# Altium footprint library blackfin_pcblib.PcbLib: 59 footprints (part 2 of 4)
Each footprint in its own frame and in the unit in brackets; x right, y up, seen from the top. Pads: shape width x height; smd on the part's side, far side on the other; paste and mask are expansions set on the pad; w line width, h text height; cw(c..) or ccw(c..) is an arc to the next point about the centre after c.
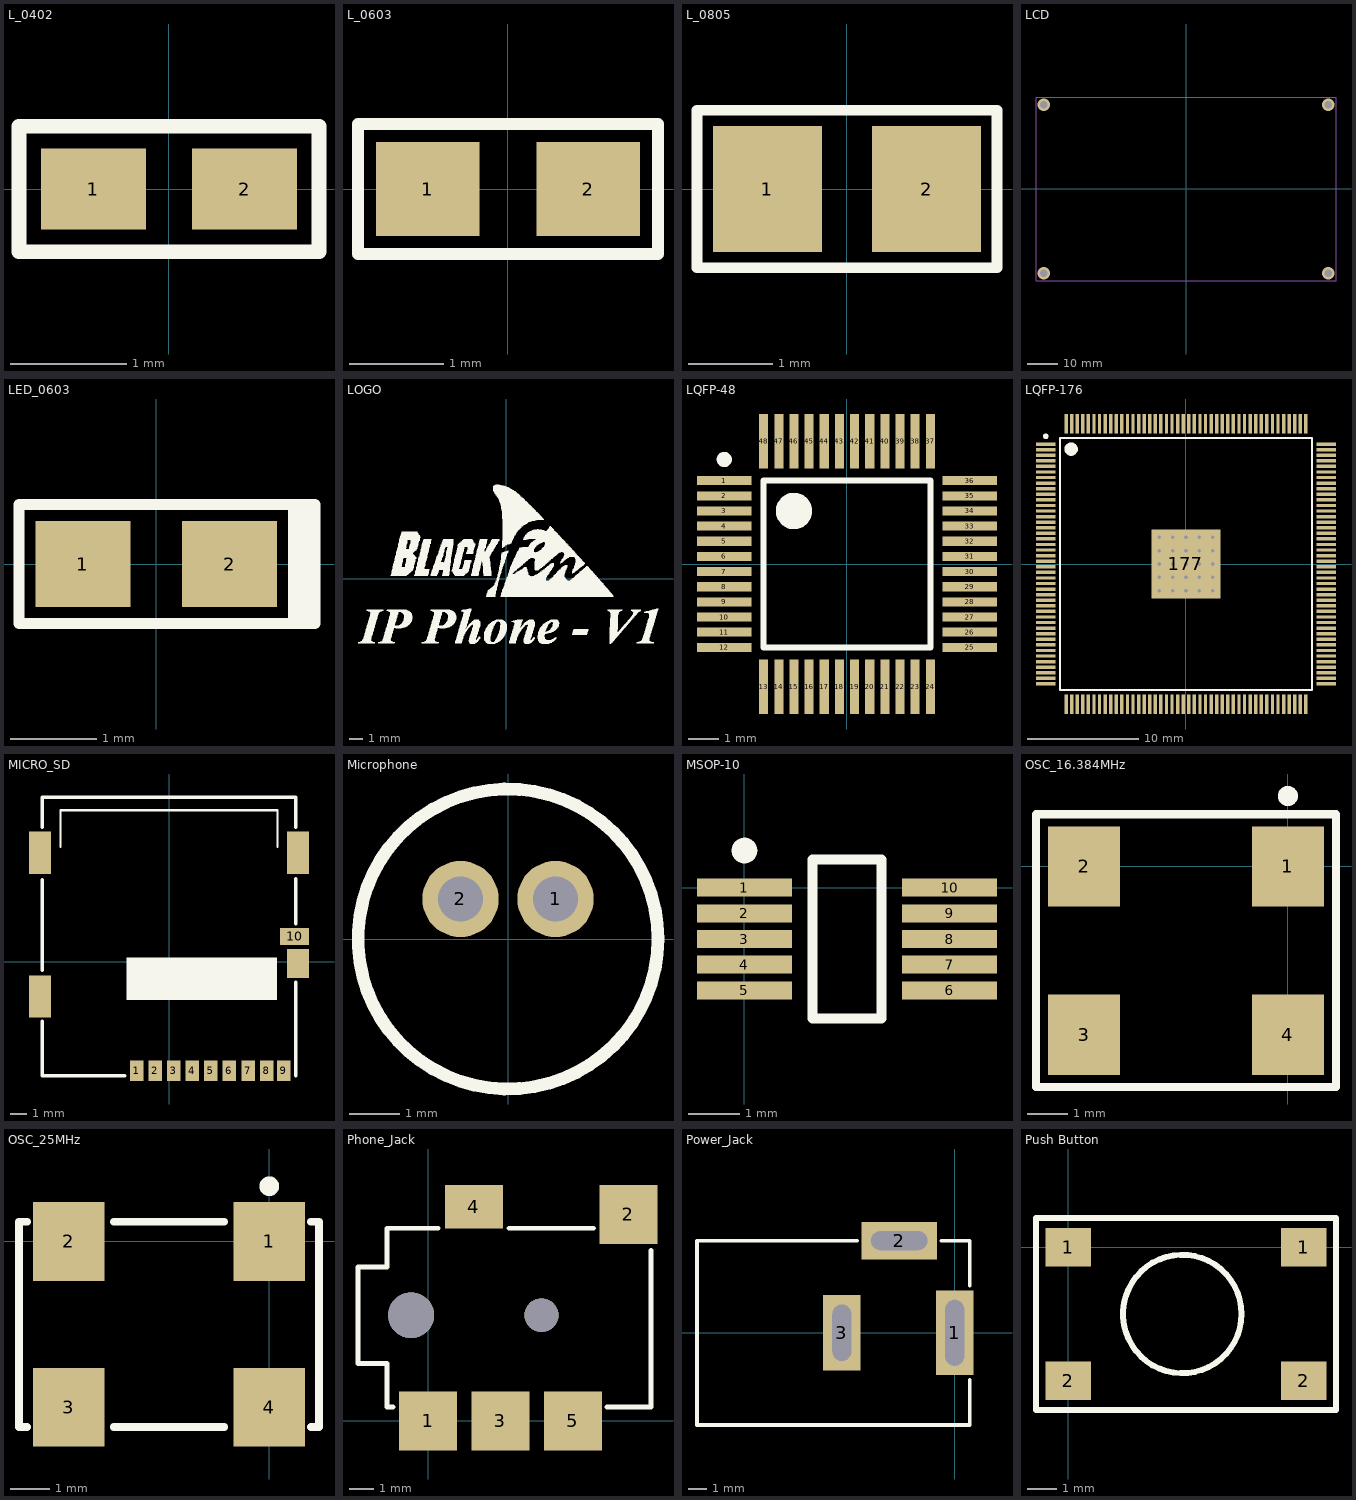
[diagram p1: the footprints below, top view; thin cyan lines are the x and y axes]

## L_0402 [mm]
pads (2):
  rect 0.9x0.7 smd: 1(-0.65,0) 2(0.65,0)
Top Overlay:
  lines w0.127: -1.29,-0.54 1.291,-0.54 1.291,0.54 -1.29,0.54 -1.29,-0.54

## L_0603 [mm]
pads (2):
  rect 1.1x1 smd: 1(-0.85,0) 2(0.85,0)
Top Overlay:
  lines w0.127: -1.59,-0.69 1.59,-0.69 1.59,0.69 -1.59,0.69 -1.59,-0.69

## L_0805 [mm]
pads (2):
  rect 1.3x1.5 smd: 1(-0.95,0) 2(0.95,0)
Top Overlay:
  lines w0.127: -1.79,-0.94 -1.79,0.94 1.79,0.94 1.79,-0.94 -1.79,-0.94

## LCD [mm] "LCD"
height 35
via -46.5,-27.5 diameter 4 hole 2.5
via 46.5,-27.5 diameter 4 hole 2.5
via 46.5,27.5 diameter 4 hole 2.5
via -46.5,27.5 diameter 4 hole 2.5
Mechanical 1:
  lines w0.2: -49,-30 49,-30 49,30 -49,30 -49,-30
3D body: height 35, standoff 25, extent -49.1,-30.1 49.1,30.1

## LED_0603 [mm]
pads (2):
  rect 1.1x1 smd: 1(-0.85,0) 2(0.85,0)
Top Overlay:
  region: 1.886,0.711 1.528,0.711 1.528,-0.711 1.886,-0.711
  lines w0.127: -1.59,-0.69 1.842,-0.69 1.842,0.69 -1.59,0.69 -1.59,-0.69

## LOGO [mm]
Top Overlay:
  drawing of 2886 lines, arcs and shapes, not listed

## LQFP-48 [mm] "DP83848C, FT2232D"
height 1.6
pads (48):
  rect 1.8x0.3 smd: 1(-4.05,2.75) 2(-4.05,2.25) 3(-4.05,1.75) 4(-4.05,1.25) 5(-4.05,0.75) 6(-4.05,0.25) 7(-4.05,-0.25) 8(-4.05,-0.75) 9(-4.05,-1.25) 10(-4.05,-1.75) 11(-4.05,-2.25) 12(-4.05,-2.75) 25(4.05,-2.75) 26(4.05,-2.25) 27(4.05,-1.75) 28(4.05,-1.25) 29(4.05,-0.75) 30(4.05,-0.25) 31(4.05,0.25) 32(4.05,0.75) 33(4.05,1.25) 34(4.05,1.75) 35(4.05,2.25) 36(4.05,2.75)
  rect 0.3x1.8 smd: 13(-2.75,-4.05) 14(-2.25,-4.05) 15(-1.75,-4.05) 16(-1.25,-4.05) 17(-0.75,-4.05) 18(-0.25,-4.05) 19(0.25,-4.05) 20(0.75,-4.05) 21(1.25,-4.05) 22(1.75,-4.05) 23(2.25,-4.05) 24(2.75,-4.05) 37(2.75,4.05) 38(2.25,4.05) 39(1.75,4.05) 40(1.25,4.05) 41(0.75,4.05) 42(0.25,4.05) 43(-0.25,4.05) 44(-0.75,4.05) 45(-1.25,4.05) 46(-1.75,4.05) 47(-2.25,4.05) 48(-2.75,4.05)
Top Overlay:
  circle w0.25: c-4.05,3.45 r0.125
  circle w0.6: c-1.75,1.75 r0.3
  lines w0.2: -2.75,-2.75 -2.75,2.75 2.75,2.75 2.75,-2.75 -2.75,-2.75

## LQFP-176 [mm] "ADSP-BF518"
height 1.6
pads (177):
  rect 1.75x0.3 smd: 1(-12.575,10.75) 2(-12.575,10.25) 3(-12.575,9.75) 4(-12.575,9.25) 5(-12.575,8.75) 6(-12.575,8.25) 7(-12.575,7.75) 8(-12.575,7.25) 9(-12.575,6.75) 10(-12.575,6.25) 11(-12.575,5.75) 12(-12.575,5.25) 13(-12.575,4.75) 14(-12.575,4.25) 15(-12.575,3.75) 16(-12.575,3.25) 17(-12.575,2.75) 18(-12.575,2.25) 19(-12.575,1.75) 20(-12.575,1.25) 21(-12.575,0.75) 22(-12.575,0.25) 23(-12.575,-0.25) 24(-12.575,-0.75) 25(-12.575,-1.25) 26(-12.575,-1.75) 27(-12.575,-2.25) 28(-12.575,-2.75) 29(-12.575,-3.25) 30(-12.575,-3.75) 31(-12.575,-4.25) 32(-12.575,-4.75) 33(-12.575,-5.25) 34(-12.575,-5.75) 35(-12.575,-6.25) 36(-12.575,-6.75) 37(-12.575,-7.25) 38(-12.575,-7.75) 39(-12.575,-8.25) 40(-12.575,-8.75) 41(-12.575,-9.25) 42(-12.575,-9.75) 43(-12.575,-10.25) 44(-12.575,-10.75) 89(12.575,-10.75) 90(12.575,-10.25) 91(12.575,-9.75) 92(12.575,-9.25) 93(12.575,-8.75) 94(12.575,-8.25) 95(12.575,-7.75) 96(12.575,-7.25) 97(12.575,-6.75) 98(12.575,-6.25) 99(12.575,-5.75) 100(12.575,-5.25) 101(12.575,-4.75) 102(12.575,-4.25) 103(12.575,-3.75) 104(12.575,-3.25) 105(12.575,-2.75) 106(12.575,-2.25) 107(12.575,-1.75) 108(12.575,-1.25) 109(12.575,-0.75) 110(12.575,-0.25) 111(12.575,0.25) 112(12.575,0.75) 113(12.575,1.25) 114(12.575,1.75) 115(12.575,2.25) 116(12.575,2.75) 117(12.575,3.25) 118(12.575,3.75) 119(12.575,4.25) 120(12.575,4.75) 121(12.575,5.25) 122(12.575,5.75) 123(12.575,6.25) 124(12.575,6.75) 125(12.575,7.25) 126(12.575,7.75) 127(12.575,8.25) 128(12.575,8.75) 129(12.575,9.25) 130(12.575,9.75) 131(12.575,10.25) 132(12.575,10.75)
  rect 0.3x1.75 smd: 45(-10.75,-12.575) 46(-10.25,-12.575) 47(-9.75,-12.575) 48(-9.25,-12.575) 49(-8.75,-12.575) 50(-8.25,-12.575) 51(-7.75,-12.575) 52(-7.25,-12.575) 53(-6.75,-12.575) 54(-6.25,-12.575) 55(-5.75,-12.575) 56(-5.25,-12.575) 57(-4.75,-12.575) 58(-4.25,-12.575) 59(-3.75,-12.575) 60(-3.25,-12.575) 61(-2.75,-12.575) 62(-2.25,-12.575) 63(-1.75,-12.575) 64(-1.25,-12.575) 65(-0.75,-12.575) 66(-0.25,-12.575) 67(0.25,-12.575) 68(0.75,-12.575) 69(1.25,-12.575) 70(1.75,-12.575) 71(2.25,-12.575) 72(2.75,-12.575) 73(3.25,-12.575) 74(3.75,-12.575) 75(4.25,-12.575) 76(4.75,-12.575) 77(5.25,-12.575) 78(5.75,-12.575) 79(6.25,-12.575) 80(6.75,-12.575) 81(7.25,-12.575) 82(7.75,-12.575) 83(8.25,-12.575) 84(8.75,-12.575) 85(9.25,-12.575) 86(9.75,-12.575) 87(10.25,-12.575) 88(10.75,-12.575) 133(10.75,12.575) 134(10.25,12.575) 135(9.75,12.575) 136(9.25,12.575) 137(8.75,12.575) 138(8.25,12.575) 139(7.75,12.575) 140(7.25,12.575) 141(6.75,12.575) 142(6.25,12.575) 143(5.75,12.575) 144(5.25,12.575) 145(4.75,12.575) 146(4.25,12.575) 147(3.75,12.575) 148(3.25,12.575) 149(2.75,12.575) 150(2.25,12.575) 151(1.75,12.575) 152(1.25,12.575) 153(0.75,12.575) 154(0.25,12.575) 155(-0.25,12.575) 156(-0.75,12.575) 157(-1.25,12.575) 158(-1.75,12.575) 159(-2.25,12.575) 160(-2.75,12.575) 161(-3.25,12.575) 162(-3.75,12.575) 163(-4.25,12.575) 164(-4.75,12.575) 165(-5.25,12.575) 166(-5.75,12.575) 167(-6.25,12.575) 168(-6.75,12.575) 169(-7.25,12.575) 170(-7.75,12.575) 171(-8.25,12.575) 172(-8.75,12.575) 173(-9.25,12.575) 174(-9.75,12.575) 175(-10.25,12.575) 176(-10.75,12.575)
  rect 6.2x6.2 smd: 177(0,0)
via -2.4,2.4 diameter 0.66 hole 0.33
via -1.2,2.4 diameter 0.66 hole 0.33
via 0,2.4 diameter 0.66 hole 0.33
via 1.2,2.4 diameter 0.66 hole 0.33
via 2.4,2.4 diameter 0.66 hole 0.33
via -2.4,1.2 diameter 0.66 hole 0.33
via -1.2,1.2 diameter 0.66 hole 0.33
via 0,1.2 diameter 0.66 hole 0.33
via 1.2,1.2 diameter 0.66 hole 0.33
via 2.4,1.2 diameter 0.66 hole 0.33
via -2.4,0 diameter 0.66 hole 0.33
via -1.2,0 diameter 0.66 hole 0.33
via 0,0 diameter 0.66 hole 0.33
via 1.2,0 diameter 0.66 hole 0.33
via 2.4,0 diameter 0.66 hole 0.33
via -2.4,-1.2 diameter 0.66 hole 0.33
via -1.2,-1.2 diameter 0.66 hole 0.33
via 0,-1.2 diameter 0.66 hole 0.33
via 1.2,-1.2 diameter 0.66 hole 0.33
via 2.4,-1.2 diameter 0.66 hole 0.33
via -2.4,-2.4 diameter 0.66 hole 0.33
via -1.2,-2.4 diameter 0.66 hole 0.33
via 0,-2.4 diameter 0.66 hole 0.33
via 1.2,-2.4 diameter 0.66 hole 0.33
via 2.4,-2.4 diameter 0.66 hole 0.33
Top Overlay:
  circle w0.25: c-12.575,11.45 r0.125
  circle w0.6: c-10.3,10.3 r0.3
  lines w0.2: -11.3,-11.3 -11.3,11.3 11.3,11.3 11.3,-11.3 -11.3,-11.3
Mechanical 15:
  lines w0.1: -0.5,0 0.5,0 ; 0,-0.5 0,0.5

## MICRO_SD [mm]
pads (14):
  rect 0.8x1.2 smd: 1(-1.92,-6.45) 2(-0.82,-6.45) 3(0.28,-6.45) 4(1.38,-6.45) 5(2.48,-6.45) 6(3.58,-6.45) 7(4.68,-6.45) 8(5.78,-6.45) 9(6.78,-6.45)
  rect 1.7x1 smd: 10(7.43,1.5)
  rect 1.3x2.5 smd: ""(-7.63,-2.05) ""(-7.63,6.45) ""(7.63,6.45)
  rect 1.3x1.7 smd: ""(7.63,-0.1)
Top Overlay:
  rectangle: -2.515,-2.261 6.401,0.254
  lines w0.127: -6.415,6.796 -6.415,8.971 6.415,8.971 6.415,6.796
  lines w0.2: -7.5,-3.509 -7.5,-6.75 -2.609,-6.75 ; -7.5,-0.512 -7.5,4.873 ; -7.5,7.972 -7.5,9.75 7.5,9.75 7.5,7.972 ; 7.5,-6.75 7.5,-1.197 ; 7.5,2.257 7.5,4.924

## Microphone [mm]
pads (2):
  round 1.524 hole 0.9: 1(0.95,0.8) 2(-0.95,0.8)
Top Overlay:
  circle w0.254: c0,0 r3
3D body: height 2.7, standoff 0, extent -3.009,-3.009 3.009,3.009

## MSOP-10 [mm] "SSM2167"
height 1.1
pads (10):
  rect 1.85x0.35 smd: 1(0,0) 2(0,-0.5) 3(0,-1) 4(0,-1.5) 5(0,-2) 6(4,-2) 7(4,-1.5) 8(4,-1) 9(4,-0.5) 10(4,0)
Top Overlay:
  circle w0.25: c0,0.725 r0.125
  lines w0.2: 1.325,-2.55 1.325,0.55 2.675,0.55 2.675,-2.55 1.325,-2.55

## OSC_16.384MHz [mm]
height 1.6
pads (4):
  rect 1.8x2 smd: 1(0,0) 2(-5.08,0) 3(-5.08,-4.2) 4(0,-4.2)
Top Overlay:
  circle w0.25: c0,1.754 r0.125
  lines w0.2: -6.28,-5.5 -6.28,1.3 1.2,1.3 1.2,-5.5 -6.28,-5.5

## OSC_25MHz [mm]
height 1
pads (4):
  rect 1.8x2 smd: 1(0,0) 2(-5.08,0) 3(-5.08,-4.2) 4(0,-4.2)
Top Overlay:
  circle w0.25: c0,1.398 r0.125
  lines w0.2: -6.14,-4.7 -6.34,-4.7 -6.34,0.5 -6.14,0.5 ; -3.94,-4.7 -1.14,-4.7 ; -3.94,0.5 -1.14,0.5 ; 1.06,-4.7 1.26,-4.7 1.26,0.5 1.06,0.5

## Phone_Jack [mm] "Phone_Jack"
pads (7):
  rect 2.4x2.45 smd: 1(0,0) 2(8.3,8.55) 3(3,0) 5(6,0)
  rect 2.4x1.8 smd: 4(1.9,8.875)
  round 1.9 hole 1.9: ""(-0.7,4.375)
  round 1.4 hole 1.4: ""(4.7,4.375)
Top Overlay:
  lines w0.2: -1.448,0.575 -1.7,0.575 -1.7,2.375 -2.9,2.375 -2.9,6.375 -1.7,6.375 -1.7,7.975 0.427,7.975 ; 3.348,7.975 6.853,7.975 ; 7.417,0.575 9.241,0.575 9.241,7.067

## Power_Jack [mm] "Power_Jack"
height 11
pads (3):
  rect 2x4.5 hole 1 slot 3.5 at 90 deg: 1(0,0)
  rect 4x2 hole 1 slot 3 at 0 deg: 2(-2.95,4.9)
  rect 2x4 hole 1 slot 3 at 90 deg: 3(-6,0)
Top Overlay:
  lines w0.2: -5.2,4.9 -13.7,4.9 -13.7,-4.9 0.8,-4.9 0.8,-2.5 ; -0.7,4.9 0.8,4.9 0.8,2.5

## Push Button [mm] "Push Button"
height 5
pads (4):
  rect 1.55x1.3 smd: 1(0,0) 1(7.95,0) 2(0,-4.5) 2(7.95,-4.5)
Top Overlay:
  circle w0.2: c3.85,-2.25 r2
  lines w0.2: -1.09,-5.49 -1.09,0.99 9.04,0.99 9.04,-5.49 -1.09,-5.49